# EAGLE library part GEC19DABN-M30 (library con-sullins)
HEADER - Vertical
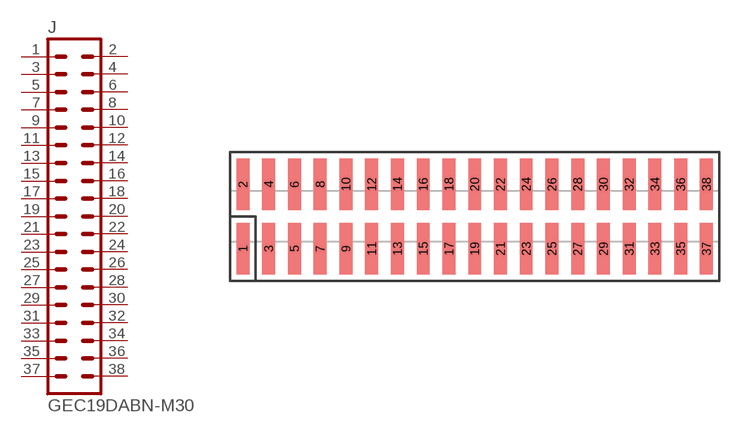
[diagram p15: symbol with the pads of GXC19; footprint GXC19]

Designator prefix J

## GEC19DABN-M30  [GXC19]
1  1  pas
2  2  pas
3  3  pas
4  4  pas
5  5  pas
6  6  pas
7  7  pas
8  8  pas
9  9  pas
10  10  pas
11  11  pas
12  12  pas
13  13  pas
14  14  pas
15  15  pas
16  16  pas
17  17  pas
18  18  pas
19  19  pas
20  20  pas
21  21  pas
22  22  pas
23  23  pas
24  24  pas
25  25  pas
26  26  pas
27  27  pas
28  28  pas
29  29  pas
30  30  pas
31  31  pas
32  32  pas
33  33  pas
34  34  pas
35  35  pas
36  36  pas
37  37  pas
38  38  pas

## Footprint GXC19 (pad centres in mm)
SMD HEADER - 0.1", Vertical
smd 1.27 x 5.08: 1 -22.86,-3.175; 2 -22.86,3.175; 3 -20.32,-3.175; 4 -20.32,3.175; 5 -17.78,-3.175; 6 -17.78,3.175; 7 -15.24,-3.175; 8 -15.24,3.175; 9 -12.7,-3.175; 10 -12.7,3.175; 11 -10.16,-3.175; 12 -10.16,3.175; 13 -7.62,-3.175; 14 -7.62,3.175; 15 -5.08,-3.175; 16 -5.08,3.175; 17 -2.54,-3.175; 18 -2.54,3.175; 19 0,-3.175; 20 0,3.175; 21 2.54,-3.175; 22 2.54,3.175; 23 5.08,-3.175; 24 5.08,3.175; 25 7.62,-3.175; 26 7.62,3.175; 27 10.16,-3.175; 28 10.16,3.175; 29 12.7,-3.175; 30 12.7,3.175; 31 15.24,-3.175; 32 15.24,3.175; 33 17.78,-3.175; 34 17.78,3.175; 35 20.32,-3.175; 36 20.32,3.175; 37 22.86,-3.175; 38 22.86,3.175